# Altium footprint library Flyback_PcbLib.PcbLib: 7 footprints
Each footprint in its own frame and in the unit in brackets; x right, y up, seen from the top. Pads: shape width x height; smd on the part's side, far side on the other; paste and mask are expansions set on the pad; w line width, h text height; cw(c..) or ccw(c..) is an arc to the next point about the centre after c.
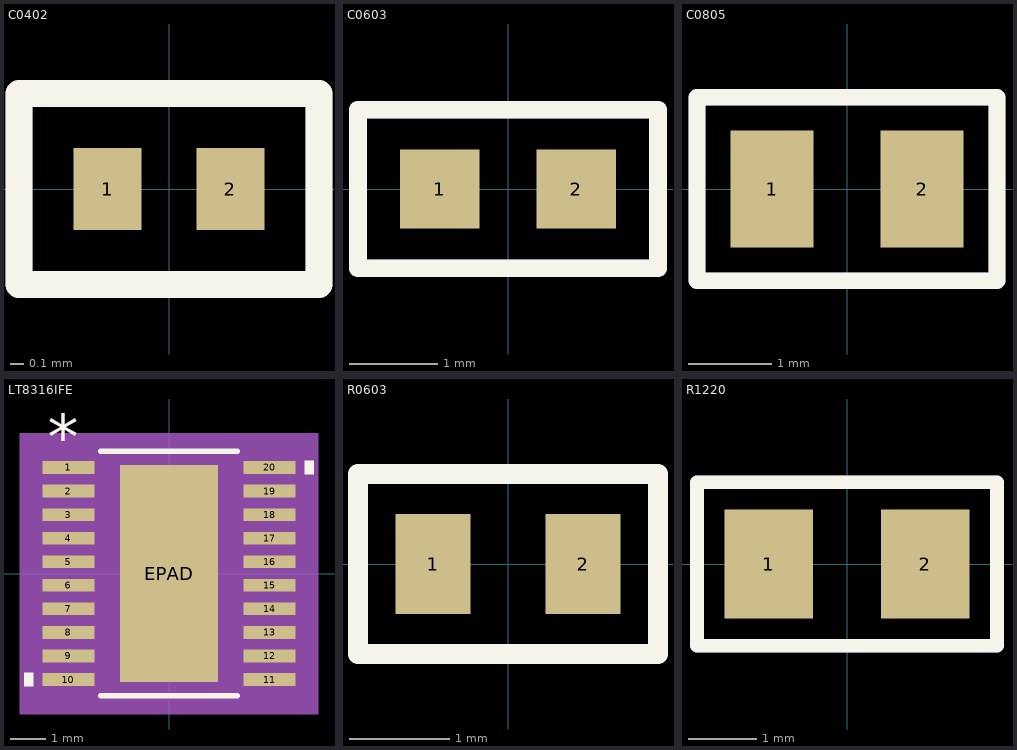
[diagram p0: the footprints below, top view; thin cyan lines are the x and y axes]

## C0402 [mm]
pads (2):
  rect 0.5x0.6 smd: 1(-0.45,0) 2(0.45,0)
Top Overlay:
  lines w0.2: -1.1,-0.7 1.1,-0.7 1.1,0.7 -1.1,0.7 -1.1,-0.7
Mechanical 29:
  lines w0.2: -1.1,-0.7 1.1,-0.7 1.1,0.7 -1.1,0.7 -1.1,-0.7
  text "'.Designator'" at -0.9,-0.7 h0.7
3D body "GRM155R71E104KE14J.STEP": height 0.56, standoff 0.01, extent -0.5,-0.25 0.5,0.25

## C0603 [mm]
pads (2):
  rect 0.9x0.9 smd: 1(-0.775,0) 2(0.775,0)
Top Overlay:
  lines w0.2: -1.7,-0.9 -1.7,0.9 1.7,0.9 1.7,-0.9 -1.7,-0.9
Mechanical 29:
  lines w0.2: -1.7,-0.9 -1.7,0.9 1.7,0.9 1.7,-0.9 -1.7,-0.9
  text "'.Designator'" at -1.2,-0.7 h0.7
3D body "GRM1885C2A470JA01D.STEP": height 0.91, standoff 0.01, extent -0.8,-0.4 0.8,0.4

## C0805 [mm]
pads (2):
  rect 1x1.4 smd: 1(-0.9,0) 2(0.9,0)
Top Overlay:
  lines w0.2: -1.8,-1.1 1.8,-1.1 1.8,1.1 -1.8,1.1 -1.8,-1.1
Mechanical 29:
  lines w0.2: -1.8,-1.1 1.8,-1.1 1.8,1.1 -1.8,1.1 -1.8,-1.1
  text "'.Designator'" at -1.4,-0.7 h0.7
3D body "GRM219R61E475MA73D.STEP": height 0.96, standoff 0.01, extent -1,-0.625 1,0.625

## LT8316IFE [mil]
pads (21):
  rect 57.56x13.97 smd paste+0 mask+0: 1(-111,117) 2(-111,91) 3(-111,65) 4(-111,39) 5(-111,13) 6(-111,-13) 7(-111,-39) 8(-111,-65) 9(-111,-91) 10(-111,-117) 11(111,-117) 12(111,-91) 13(111,-65) 14(111,-39) 15(111,-13) 16(111,13) 17(111,39) 18(111,65) 19(111,91) 20(111,117)
  rect 108x239 smd paste-119 mask+0: EPAD(0,0)
Top Overlay:
  region: -149.78,-109.5 -159.78,-109.5 -159.78,-124.5 -149.78,-124.5
  region: 149.78,124.5 159.78,124.5 159.78,109.5 149.78,109.5
  lines w6: -75.13,-135 75.13,-135 ; -75.13,135 75.13,135
  text "*" at -133.5,125.97 h50
Top Paste:
  region: -3.94,115.56 -50.06,115.56 -50.06,63.69 -3.94,63.69
  region: -3.94,55.81 -50.06,55.81 -50.06,3.94 -3.94,3.94
  region: -3.94,-3.94 -50.06,-3.94 -50.06,-55.81 -3.94,-55.81
  region: -3.94,-63.69 -50.06,-63.69 -50.06,-115.56 -3.94,-115.56
  region: 50.06,115.56 3.94,115.56 3.94,63.69 50.06,63.69
  region: 50.06,55.81 3.94,55.81 3.94,3.94 50.06,3.94
  region: 50.06,-3.94 3.94,-3.94 3.94,-55.81 50.06,-55.81
  region: 50.06,-63.69 3.94,-63.69 3.94,-115.56 50.06,-115.56
Mechanical 5:
  region: 164.78,-155 -164.78,-155 -164.78,155 164.78,155
Mechanical 13:
  lines w0: -12,130 ccw(c0,130) 12,130
  lines w1: -126,-123 -126,-111 -88.5,-111 -88.5,-123 -126,-123 ; -126,-97 -126,-85 -88.5,-85 -88.5,-97 -126,-97 ; -126,-71 -126,-59 -88.5,-59 -88.5,-71 -126,-71 ; -126,-45 -126,-33 -88.5,-33 -88.5,-45 -126,-45 ; -126,-19 -126,-7 -88.5,-7 -88.5,-19 -126,-19 ; -126,7 -126,19 -88.5,19 -88.5,7 -126,7 ; -126,33 -126,45 -88.5,45 -88.5,33 -126,33 ; -126,59 -126,71 -88.5,71 -88.5,59 -126,59 ; -126,85 -126,97 -88.5,97 -88.5,85 -126,85 ; -126,111 -126,123 -88.5,123 -88.5,111 -126,111 ; -88.5,-130 88.5,-130 88.5,130 -88.5,130 -88.5,-130 ; 88.5,-123 88.5,-111 126,-111 126,-123 88.5,-123 ; 88.5,-97 88.5,-85 126,-85 126,-97 88.5,-97 ; 88.5,-71 88.5,-59 126,-59 126,-71 88.5,-71 ; 88.5,-45 88.5,-33 126,-33 126,-45 88.5,-45 ; 88.5,-19 88.5,-7 126,-7 126,-19 88.5,-19 ; 88.5,7 88.5,19 126,19 126,7 88.5,7 ; 88.5,33 88.5,45 126,45 126,33 88.5,33 ; 88.5,59 88.5,71 126,71 126,59 88.5,59 ; 88.5,85 88.5,97 126,97 126,85 88.5,85 ; 88.5,111 88.5,123 126,123 126,111 88.5,111
  text "*" at -86,77 h50
3D body: height 10, standoff 0, extent 0,0 10,10
3D body "TSSOP_20_ADI.step": height 47.09, standoff 0, extent -125.98,-130 125.99,130

## PCBComponent_1 [mil]

## R0603 [mm]
pads (2):
  rect 0.75x1 smd: 1(-0.75,0) 2(0.75,0)
Top Overlay:
  lines w0.2: -1.5,-0.9 -1.5,0.9 1.5,0.9 1.5,-0.9 -1.5,-0.9
Mechanical 29:
  lines w0.2: -1.5,-0.9 -1.5,0.9 1.5,0.9 1.5,-0.9 -1.5,-0.9
  text "'.Designator'" at -1.1,-0.7 h0.7
3D body "User Library-CR1608-0603.step": height 0.46, standoff 0.01, extent -0.8,-0.4 0.8,0.4

## R1220 [mm]
pads (2):
  rect 1.3x1.6 smd: 1(-1.15,0) 2(1.15,0)
Top Overlay:
  lines w0.2: -2.2,-1.2 -2.2,1.2 2.2,1.2 2.2,-1.2 -2.2,-1.2
Mechanical 29:
  lines w0.2: -2.2,-1.2 -2.2,1.2 2.2,1.2 2.2,-1.2 -2.2,-1.2
  text "'.Designator'" at -1.7,-0.5 h0.7
3D body "RES_1220_SUS.step": height 0.7, standoff 0, extent -1.1,-0.725 1.1,0.725